# Altium schematic symbol library TestPoint.SchLib: 1 symbol
Pins are listed as number, name and electrical type; pins without a type are passive.

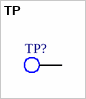
[diagram p0: symbol TP]

## TP
designator TP?  (value not drawn)
Test point
footprint TP
pins: 0